# EAGLE library part DSPIC33EVXXXGM104 (library MCUs)
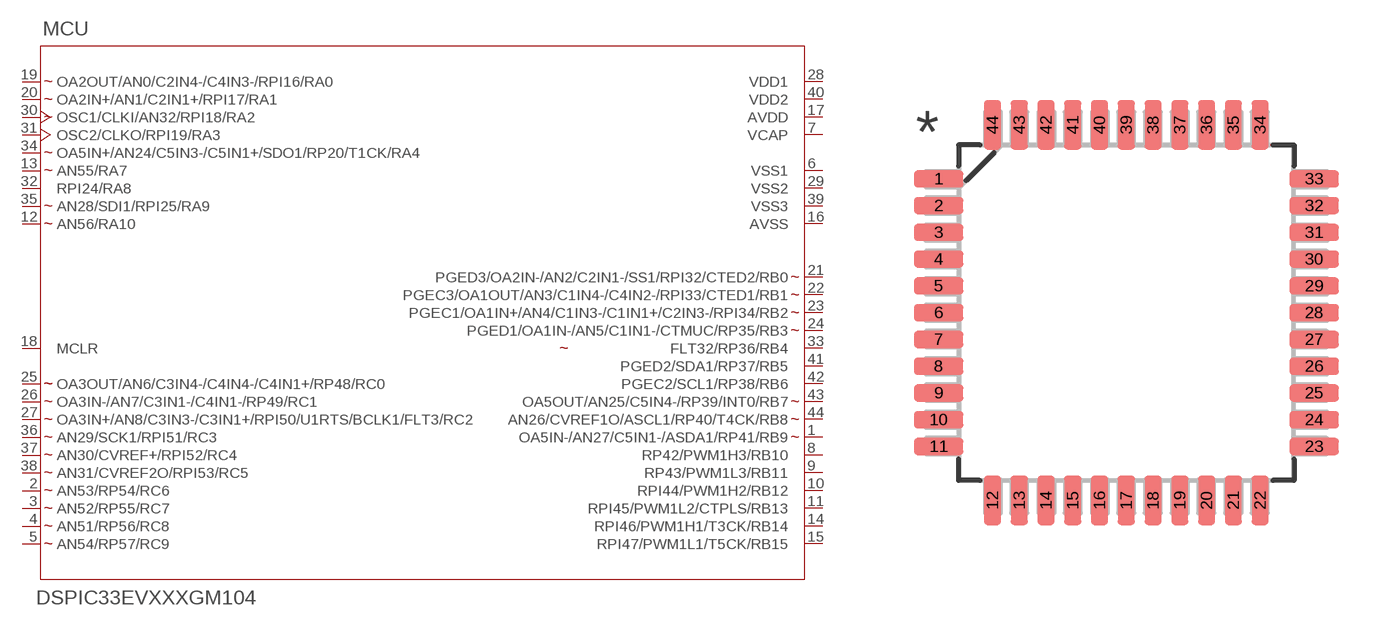
[diagram p7: symbol with the pads of TQFP-44; footprint TQFP-44]

Designator prefix MCU

## DSPIC33EVXXXGM104-X/PT  [TQFP-44]
1  OA5IN-/AN27/C5IN1-/ASDA1/RP41/RB9
2  AN53/RP54/RC6
3  AN52/RP55/RC7
4  AN51/RP56/RC8
5  AN54/RP57/RC9
6  VSS1  pas
7  VCAP  pas
8  RP42/PWM1H3/RB10
9  RP43/PWM1L3/RB11
10  RPI44/PWM1H2/RB12
11  RPI45/PWM1L2/CTPLS/RB13
12  AN56/RA10
13  AN55/RA7
14  RPI46/PWM1H1/T3CK/RB14
15  RPI47/PWM1L1/T5CK/RB15
16  AVSS  pas
17  AVDD  pas
18  MCLR
19  OA2OUT/AN0/C2IN4-/C4IN3-/RPI16/RA0
20  OA2IN+/AN1/C2IN1+/RPI17/RA1
21  PGED3/OA2IN-/AN2/C2IN1-/SS1/RPI32/CTED2/RB0
22  PGEC3/OA1OUT/AN3/C1IN4-/C4IN2-/RPI33/CTED1/RB1
23  PGEC1/OA1IN+/AN4/C1IN3-/C1IN1+/C2IN3-/RPI34/RB2
24  PGED1/OA1IN-/AN5/C1IN1-/CTMUC/RP35/RB3
25  OA3OUT/AN6/C3IN4-/C4IN4-/C4IN1+/RP48/RC0
26  OA3IN-/AN7/C3IN1-/C4IN1-/RP49/RC1
27  OA3IN+/AN8/C3IN3-/C3IN1+/RPI50/U1RTS/BCLK1/FLT3/RC2
28  VDD1  pas
29  VSS2  pas
30  OSC1/CLKI/AN32/RPI18/RA2
31  OSC2/CLKO/RPI19/RA3
32  RPI24/RA8
33  FLT32/RP36/RB4
34  OA5IN+/AN24/C5IN3-/C5IN1+/SDO1/RP20/T1CK/RA4
35  AN28/SDI1/RPI25/RA9
36  AN29/SCK1/RPI51/RC3
37  AN30/CVREF+/RPI52/RC4
38  AN31/CVREF2O/RPI53/RC5
39  VSS3  pas
40  VDD2  pas
41  PGED2/SDA1/RP37/RB5
42  PGEC2/SCL1/RP38/RB6
43  OA5OUT/AN25/C5IN4-/RP39/INT0/RB7
44  AN26/CVREF1O/ASCL1/RP40/T4CK/RB8

## Footprint TQFP-44 (pad centres in mm)
smd 1.473 x 0.508: 1 -5.613,4; 2 -5.613,3.2; 3 -5.613,2.4; 4 -5.613,1.6; 5 -5.613,0.8; 6 -5.613,0; 7 -5.613,-0.8; 8 -5.613,-1.6; 9 -5.613,-2.4; 10 -5.613,-3.2; 11 -5.613,-4; 23 5.613,-4; 24 5.613,-3.2; 25 5.613,-2.4; 26 5.613,-1.6; 27 5.613,-0.8; 28 5.613,0; 29 5.613,0.8; 30 5.613,1.6; 31 5.613,2.4; 32 5.613,3.2; 33 5.613,4
smd 0.508 x 1.473: 12 -4,-5.613; 13 -3.2,-5.613; 14 -2.4,-5.613; 15 -1.6,-5.613; 16 -0.8,-5.613; 17 0,-5.613; 18 0.8,-5.613; 19 1.6,-5.613; 20 2.4,-5.613; 21 3.2,-5.613; 22 4,-5.613; 34 4,5.613; 35 3.2,5.613; 36 2.4,5.613; 37 1.6,5.613; 38 0.8,5.613; 39 0,5.613; 40 -0.8,5.613; 41 -1.6,5.613; 42 -2.4,5.613; 43 -3.2,5.613; 44 -4,5.613